# Altium integrated library WE-SD Rod Core Choke.IntLib: 12 symbols
Pins are listed as number, name and electrical type; pins without a type are passive.

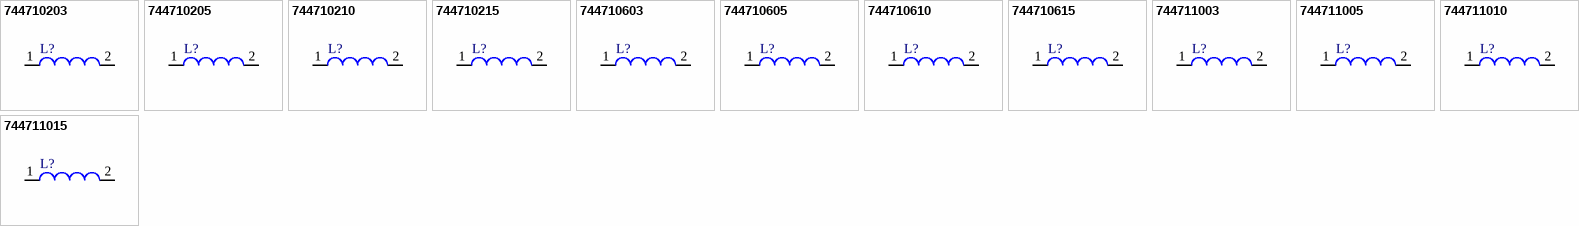
[diagram p0: symbols 744710203 to 744711015]

## 744710203
designator L?
Rod Core  Inductor High Current WE-SD, L = 2.00 µH; PartNumber: 744710203; Inductance: 2.00 µH; DatasheetVersion: Nov-2006; PackageReference: WE-SD-744710203; PackageDescription: THT Inductor, 2-Leads, Body 12.3 x 3.2 mm; ComponentLink1Description: Manufacturer URL; ComponentLink1URL: http://www.we-online.com; ComponentLink2Description: Datasheet; ComponentLink2URL: http://www.we-online.de/katalog/media/pdf/744710203.pdf
footprint WE-SD-744710203 (THT Inductor, 2-Leads, Body 12.3x3.2x3.2 mm)
pins: 1, 2

## 744710205
designator L?
Rod Core  Inductor High Current WE-SD, L = 2.00 µH; PartNumber: 744710205; Inductance: 2.00 µH; DatasheetVersion: Nov-2006; PackageReference: WE-SD-744710205; PackageDescription: THT Inductor, 2-Leads, Body 14.0 x 5.9 mm; ComponentLink1Description: Manufacturer URL; ComponentLink1URL: http://www.we-online.com; ComponentLink2Description: Datasheet; ComponentLink2URL: http://www.we-online.de/katalog/media/pdf/744710205.pdf
footprint WE-SD-744710205 (THT Inductor, 2-Leads, Body 14.0x5.9x5.9 mm)
pins: 1, 2

## 744710210
designator L?
Rod Core  Inductor High Current WE-SD, L = 2.00 µH; PartNumber: 744710210; Inductance: 2.00 µH; DatasheetVersion: Nov-2006; PackageReference: WE-SD-744710210; PackageDescription: THT Inductor, 2-Leads, Body 15.4 x 7.6 mm; ComponentLink1Description: Manufacturer URL; ComponentLink1URL: http://www.we-online.com; ComponentLink2Description: Datasheet; ComponentLink2URL: http://www.we-online.de/katalog/media/pdf/744710210.pdf
footprint WE-SD-744710210 (THT Inductor, 2-Leads, Body 15.4x7.6x7.6 mm)
pins: 1, 2

## 744710215
designator L?
Rod Core  Inductor High Current WE-SD, L = 2.00 µH; PartNumber: 744710215; Inductance: 2.00 µH; DatasheetVersion: Jun-2009; PackageReference: WE-SD-744710215; PackageDescription: THT Inductor, 2-Leads, Body 25.7 x 10.0 mm; ComponentLink1Description: Manufacturer URL; ComponentLink1URL: http://www.we-online.com; ComponentLink2Description: Datasheet; ComponentLink2URL: http://www.we-online.de/katalog/media/pdf/744710215.pdf
footprint WE-SD-744710215 (THT Inductor, 2-Leads, Body 25.7x10.0x10.0 mm)
pins: 1, 2

## 744710603
designator L?
Rod Core Inductor High Current WE-SD, L = 6.00 µH; PartNumber: 744710603; Inductance: 6.00 µH; DatasheetVersion: Nov-2006; PackageReference: WE-SD-744710603; PackageDescription: THT Inductor, 2-Leads, Body 15.4 x 4.2 mm; ComponentLink1Description: Manufacturer URL; ComponentLink1URL: http://www.we-online.com; ComponentLink2Description: Datasheet; ComponentLink2URL: http://www.we-online.de/katalog/media/pdf/744710603.pdf
footprint WE-SD-744710603 (THT Inductor, 2-Leads, Body 15.4x4.2x4.2 mm)
pins: 1, 2

## 744710605
designator L?
Rod Core  Inductor High Current WE-SD, L = 6.00 µH; PartNumber: 744710605; Inductance: 6.00 µH; DatasheetVersion: Nov-2006; PackageReference: WE-SD-744710605; PackageDescription: THT Inductor, 2-Leads, Body 20.5 x 6.9 mm; ComponentLink1Description: Manufacturer URL; ComponentLink1URL: http://www.we-online.com; ComponentLink2Description: Datasheet; ComponentLink2URL: http://www.we-online.de/katalog/media/pdf/744710605.pdf
footprint WE-SD-744710605 (THT Inductor, 2-Leads, Body 20.5x6.9x6.9 mm)
pins: 1, 2

## 744710610
designator L?
Rod Core  Inductor High Current WE-SD, L = 6.00 µH; PartNumber: 744710610; Inductance: 6.00 µH; DatasheetVersion: Nov-2006; PackageReference: WE-SD-744710610; PackageDescription: THT Inductor, 2-Leads, Body 25.7 x 8.6 mm; ComponentLink1Description: Manufacturer URL; ComponentLink1URL: http://www.we-online.com; ComponentLink2Description: Datasheet; ComponentLink2URL: http://www.we-online.de/katalog/media/pdf/744710610.pdf
footprint WE-SD-744710610 (THT Inductor, 2-Leads, Body 25.7x8.6x8.6 mm)
pins: 1, 2

## 744710615
designator L?
Rod Core Inductor High Current WE-SD, L = 6.00 µH; PartNumber: 744710615; Inductance: 6.00 µH; DatasheetVersion: Nov-2006; PackageReference: WE-SD-744710615; PackageDescription: THT Inductor, 2-Leads, Body 30.0 x 14.0 mm; ComponentLink1Description: Manufacturer URL; ComponentLink1URL: http://www.we-online.com; ComponentLink2Description: Datasheet; ComponentLink2URL: http://www.we-online.de/katalog/media/pdf/744710615.pdf
footprint WE-SD-744710615 (THT Inductor, 2-Leads, Body 30.0x14.0x14.0 mm)
pins: 1, 2

## 744711003
designator L?
Rod Core Inductor High Current WE-SD, L = 10.0 µH; PartNumber: 744711003; Inductance: 10.0 µH; DatasheetVersion: Nov-2006; PackageReference: WE-SD-744711003; PackageDescription: THT Inductor, 2-Leads, Body 18.5 x 5.2 mm; ComponentLink1Description: Manufacturer URL; ComponentLink1URL: http://www.we-online.com; ComponentLink2Description: Datasheet; ComponentLink2URL: http://www.we-online.de/katalog/media/pdf/744711003.pdf
footprint WE-SD-744711003 (THT Inductor, 2-Leads, Body 18.5x5.2x5.2 mm)
pins: 1, 2

## 744711005
designator L?
Rod Core Inductor High Current WE-SD, L = 10.0 µH; PartNumber: 744711005; Inductance: 10.0 µH; DatasheetVersion: Nov-2006; PackageReference: WE-SD-744711005; PackageDescription: THT Inductor, 2-Leads, Body 22.5 x 6.9 mm; ComponentLink1Description: Manufacturer URL; ComponentLink1URL: http://www.we-online.com; ComponentLink2Description: Datasheet; ComponentLink2URL: http://www.we-online.de/katalog/media/pdf/744711005.pdf
footprint WE-SD-744711005 (THT Inductor, 2-Leads, Body 22.5x6.9x6.9 mm)
pins: 1, 2

## 744711010
designator L?
Rod Core Inductor High Current WE-SD, L = 10.0 µH; PartNumber: 744711010; Inductance: 10.0 µH; DatasheetVersion: Nov-2006; PackageReference: WE-SD-744711010; PackageDescription: THT Inductor, 2-Leads, Body 30.9 x 8.6 mm; ComponentLink1Description: Manufacturer URL; ComponentLink1URL: http://www.we-online.com; ComponentLink2Description: Datasheet; ComponentLink2URL: http://www.we-online.de/katalog/media/pdf/744711010.pdf
footprint WE-SD-744711010 (THT Inductor, 2-Leads, Body 30.9x8.6x8.6 mm)
pins: 1, 2

## 744711015
designator L?
Rod Core Inductor High Current  WE-SD, L = 10.0 µH; PartNumber: 744711015; Inductance: 10.0 µH; DatasheetVersion: Nov-2006; PackageReference: WE-SD-744711015; PackageDescription: THT Inductor, 2-Leads, Body 30.8 x 16.0 mm; ComponentLink1Description: Manufacturer URL; ComponentLink1URL: http://www.we-online.com; ComponentLink2Description: Datasheet; ComponentLink2URL: http://www.we-online.de/katalog/media/pdf/744711015.pdf
footprint WE-SD-744711015 (THT Inductor, 2-Leads, Body 30.8x16.0x16.0 mm)
pins: 1, 2